# Altium schematic symbol library SCH - COMPARATOR - MICROCHIP MCP6541T-I-LT.SCHLIB: 1 symbol
Pins are listed as number, name and electrical type; pins without a type are passive.

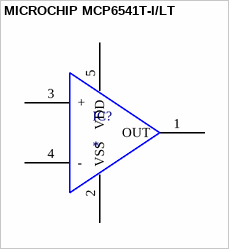
[diagram p0: symbol MICROCHIP MCP6541T-I/LT]

## MICROCHIP MCP6541T-I/LT
designator IC?
pins: 1 OUT, 2 VSS (power), 3 +, 4 -, 5 VDD (power)